# Altium footprint library PCB - LEADED - SOP - TI TSSOP-16 PW.PCBLIB: 1 footprints
Each footprint in its own frame and in the unit in brackets; x right, y up, seen from the top. Pads: shape width x height; smd on the part's side, far side on the other; paste and mask are expansions set on the pad; w line width, h text height; cw(c..) or ccw(c..) is an arc to the next point about the centre after c.
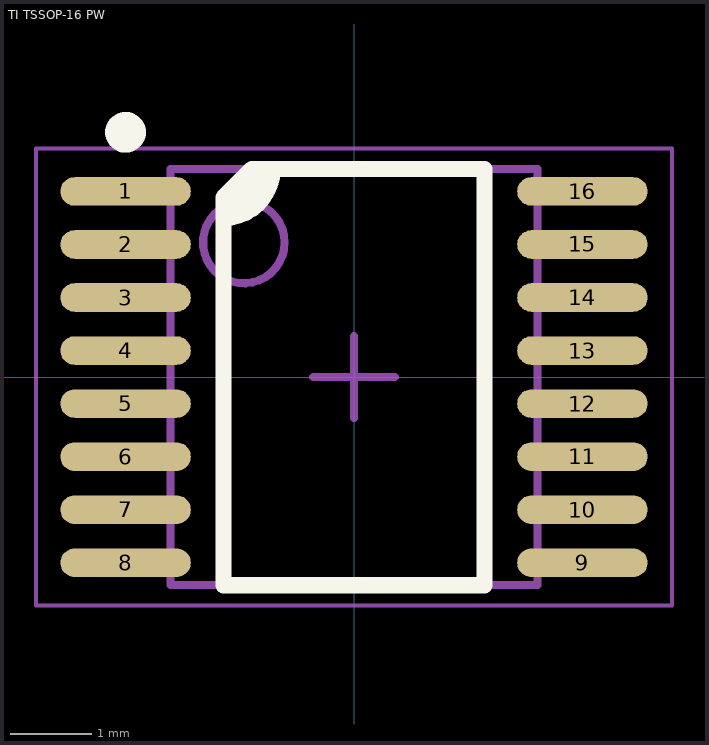
[diagram p0: the footprint, top view; thin cyan lines are the x and y axes]

## TI TSSOP-16 PW [mm] "TSSOP, 16-Leads, Body 5.00x4.40mm, Pitch 0.65mm, IPC Medium Density"
height 1.2
pads (16):
  oval 1.6x0.35 smd: 1(-2.8,2.275) 2(-2.8,1.625) 3(-2.8,0.975) 4(-2.8,0.325) 5(-2.8,-0.325) 6(-2.8,-0.975) 7(-2.8,-1.625) 8(-2.8,-2.275) 9(2.8,-2.275) 10(2.8,-1.625) 11(2.8,-0.975) 12(2.8,-0.325) 13(2.8,0.325) 14(2.8,0.975) 15(2.8,1.625) 16(2.8,2.275)
Top Overlay:
  circle w0.25: c-2.8,3 r0.125
  region: -1.6,1.95 -1.481,1.95 -1.26,2.041 -1.091,2.21 -1,2.431 -1,2.55 -1.3,2.55 -1.6,2.25
  lines w0.2: -1.6,1.95 ccw(c-1.6,2.55) -1,2.55 ; -1.6,-2.55 1.6,-2.55 1.6,2.55 -1.25,2.55 -1.6,2.2 -1.6,-2.55
Mechanical 13:
  circle w0.1: c-1.35,1.65 r0.5
  lines w0.1: -2.25,-2.55 2.25,-2.55 2.25,2.55 -2.25,2.55 -2.25,-2.55
Mechanical 15:
  lines w0.05: -3.9,-2.8 3.9,-2.8 3.9,2.8 -3.9,2.8 -3.9,-2.8
  lines w0.1: -0.5,0 0.5,0 ; 0,-0.5 0,0.5
3D body "TSSOP-16-TI-PW.STEP": height 1.2, standoff 0, extent -3.21,-2.5 3.211,2.5